# Altium footprint library NFC_Antenna.PcbLib: 1 footprints
Each footprint in its own frame and in the unit in brackets; x right, y up, seen from the top. Pads: shape width x height; smd on the part's side, far side on the other; paste and mask are expansions set on the pad; w line width, h text height; cw(c..) or ccw(c..) is an arc to the next point about the centre after c.
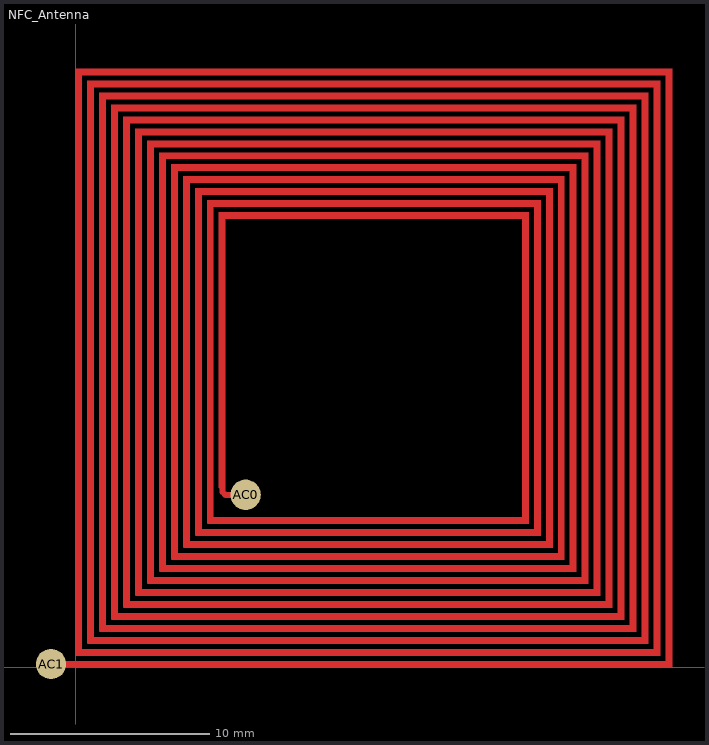
[diagram p0: the footprint, top view; thin cyan lines are the x and y axes]

## NFC_Antenna [mil] "L=5.51 uH, tuned for 13.56 MHz"
pads (2):
  round 60 smd mask+4: AC0(335,340) AC1(-49.09,5.91)
Top Layer:
  region: 0,0 0,11.81 1165.35,11.81 1165.35,1169.29 11.81,1169.29 11.81,35.43 1141.73,35.43 1141.73,1145.67 35.43,1145.67 35.43,59.06 1118.11,59.06 1118.11,1122.05 59.06,1122.05 59.06,82.68 1094.49,82.68 1094.49,1098.43 82.68,1098.43 82.68,106.3 1070.87,106.3 1070.87,1074.8 106.3,1074.8 106.3,129.92 1047.24,129.92 1047.24,1051.18 129.92,1051.18 129.92,153.54 1023.62,153.54 1023.62,1027.56 153.54,1027.56 153.54,177.17 1000,177.17 1000,1003.94 177.17,1003.94 177.17,200.79 976.38,200.79 976.38,980.32 200.79,980.32 200.79,224.41 952.76,224.41 952.76,956.69 224.41,956.69 224.41,248.03 929.13,248.03 929.13,933.07 248.03,933.07 248.03,271.65 905.51,271.65 905.51,909.45 271.65,909.45 271.65,295.28 881.89,295.28 881.89,885.83 295.28,885.83 295.28,354.33 283.46,354.33 283.46,897.64 893.7,897.64 893.7,283.46 259.84,283.46 259.84,921.26 917.32,921.26 917.32,259.84 236.22,259.84 236.22,944.88 940.94,944.88 940.94,236.22 212.6,236.22 212.6,968.5 964.57,968.5 964.57,212.6 188.98,212.6 188.98,992.13 988.19,992.13 988.19,188.98 165.35,188.98 165.35,1015.75 1011.81,1015.75 1011.81,165.35 141.73,165.35 141.73,1039.37 1035.43,1039.37 1035.43,141.73 118.11,141.73 118.11,1062.99 1059.06,1062.99 1059.06,118.11 94.49,118.11 94.49,1086.61 1082.68,1086.61 1082.68,94.49 70.87,94.49 70.87,1110.24 1106.3,1110.24 1106.3,70.87 47.24,70.87 47.24,1133.86 1129.92,1133.86 1129.92,47.24 23.62,47.24 23.62,1157.48 1153.54,1157.48 1153.54,23.62 0,23.62 0,1181.1 1177.17,1181.1 1177.17,0
  lines w0.5: 0,0 1177.17,0 1177.17,1181.1 0,1181.1 0,23.62 1153.54,23.62 1153.54,1157.48 23.62,1157.48 23.62,47.24 1129.92,47.24 1129.92,1133.86 47.24,1133.86 47.24,70.87 1106.3,70.87 1106.3,1110.24 70.87,1110.24 70.87,94.49 1082.68,94.49 1082.68,1086.61 94.49,1086.61 94.49,118.11 1059.06,118.11 1059.06,1062.99 118.11,1062.99 118.11,141.73 1035.43,141.73 1035.43,1039.37 141.73,1039.37 141.73,165.35 1011.81,165.35 1011.81,1015.75 165.35,1015.75 165.35,188.98 988.19,188.98 988.19,992.13 188.98,992.13 188.98,212.6 964.57,212.6 964.57,968.5 212.6,968.5 212.6,236.22 940.94,236.22 940.94,944.88 236.22,944.88 236.22,259.84 917.32,259.84 917.32,921.26 259.84,921.26 259.84,283.46 893.7,283.46 893.7,897.64 283.46,897.64 283.46,354.33 295.28,354.33 295.28,885.83 881.89,885.83 881.89,295.28 271.65,295.28 271.65,909.45 905.51,909.45 905.51,271.65 248.03,271.65 248.03,933.07 929.13,933.07 929.13,248.03 224.41,248.03 224.41,956.69 952.76,956.69 952.76,224.41 200.79,224.41 200.79,980.32 976.38,980.32 976.38,200.79 177.17,200.79 177.17,1003.94 1000,1003.94 1000,177.17 153.54,177.17 153.54,1027.56 1023.62,1027.56 1023.62,153.54 129.92,153.54 129.92,1051.18 1047.24,1051.18 1047.24,129.92 106.3,129.92 106.3,1074.8 1070.87,1074.8 1070.87,106.3 82.68,106.3 82.68,1098.43 1094.49,1098.43 1094.49,82.68 59.06,82.68 59.06,1122.05 1118.11,1122.05 1118.11,59.06 35.43,59.06 35.43,1145.67 1141.73,1145.67 1141.73,35.43 11.81,35.43 11.81,1169.29 1165.35,1169.29 1165.35,11.81 0,11.81 0,0
  lines w11.81: -49.09,5.91 0,5.91 ; 289.37,354.33 289.37,345.63 295,340 335,340